# EAGLE library part W25Q256JVFIQ (library W25Q256JVFIQ)
256M-bit Serial Flash Memory with uniform 4KB sectors and Dual/Quad SPI Source: Datasheet <https://www.winbond.com/hq/search-resource-file.jsp?partNo=W25Q256JVFIQ&type=datasheet>
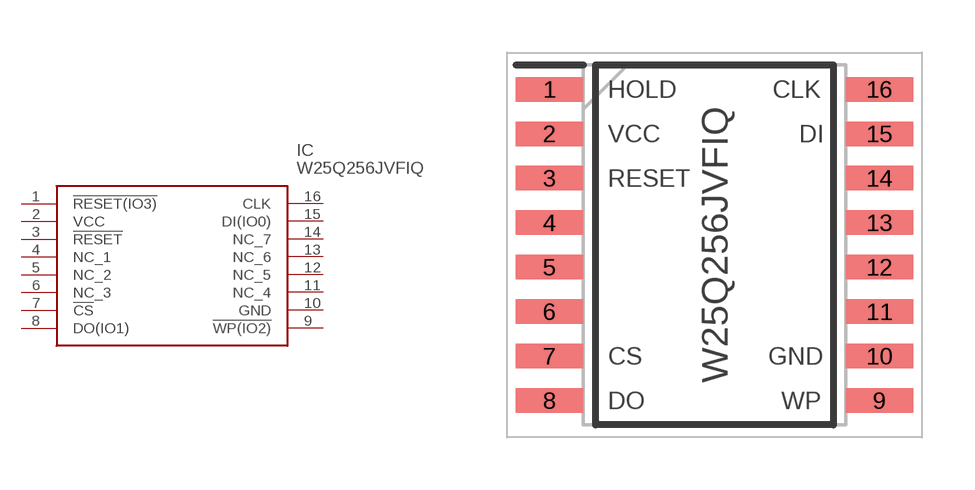
[diagram p0: symbol with the pads of SOIC127P1032X264-16N; footprint SOIC127P1032X264-16N]

Designator prefix IC

## W25Q256JVFIQ (ARROW_PART_NUMBER: W25Q256JVFIQ; ARROW_PRICE-STOCK: https://www.arrow.com/en/products/w25q256jvfiq/winbond-electronics?region=nac; DESCRIPTION: 256M-bit Serial Flash Memory with uniform 4KB sectors and Dual/Quad SPI; HEIGHT: 2.64mm; MANUFACTURER_NAME: Winbond; MANUFACTURER_PART_NUMBER: W25Q256JVFIQ; MOUSER_PART_NUMBER: 454-W25Q256JVFIQ; MOUSER_PRICE-STOCK: https://www.mouser.co.uk/ProductDetail/Winbond/W25Q256JVFIQ?qs=qSfuJ%252Bfl%2Fd66Mf%2FmOCw4Wg%3D%3D)  [SOIC127P1032X264-16N]
1  !RESET(IO3)
2  VCC
3  !RESET
4  NC_1
5  NC_2
6  NC_3
7  !CS
8  DO(IO1)
9  !WP(IO2)
10  GND
11  NC_4
12  NC_5
13  NC_6
14  NC_7
15  DI(IO0)
16  CLK

## Footprint SOIC127P1032X264-16N (pad centres in mm)
16 PIN SOIC 300-MIL SF
smd 1.93 x 0.7: 1 -4.71,4.445; 2 -4.71,3.175; 3 -4.71,1.905; 4 -4.71,0.635; 5 -4.71,-0.635; 6 -4.71,-1.905; 7 -4.71,-3.175; 8 -4.71,-4.445; 9 4.71,-4.445; 10 4.71,-3.175; 11 4.71,-1.905; 12 4.71,-0.635; 13 4.71,0.635; 14 4.71,1.905; 15 4.71,3.175; 16 4.71,4.445